# EAGLE library part NANONRES15 (library untitled)
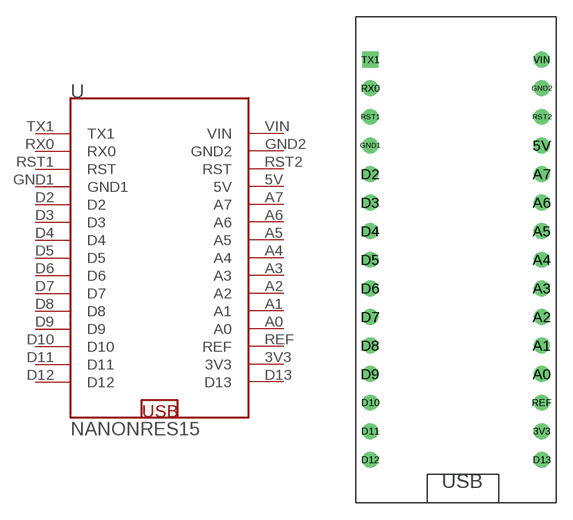
[diagram p0: symbol with the pads of NANOFOOT; footprint NANOFOOT]

Designator prefix U

## NANONRES15  [NANOFOOT]
3V3  3V3
5V  5V
A0  A0
A1  A1
A2  A2
A3  A3
A4  A4
A5  A5
A6  A6
A7  A7
D2  D2
D3  D3
D4  D4
D5  D5
D6  D6
D7  D7
D8  D8
D9  D9
D10  D10
D11  D11
D12  D12
D13  D13
GND1  GND1
GND2  GND2
REF  REF
RST1  RST
RST2  RST
RX0  RX0
TX1  TX1
VIN  VIN

## Footprint NANOFOOT (pad centres in mm)
drill 0.9: 3V3 6.35,-15.24; 5V 6.35,10.16; A0 6.35,-10.16; A1 6.35,-7.62; A2 6.35,-5.08; A3 6.35,-2.54; A4 6.35,0; A5 6.35,2.54; A6 6.35,5.08; A7 6.35,7.62; D2 -8.89,7.62; D3 -8.89,5.08; D4 -8.89,2.54; D5 -8.89,0; D6 -8.89,-2.54; D7 -8.89,-5.08; D8 -8.89,-7.62; D9 -8.89,-10.16; D10 -8.89,-12.7; D11 -8.89,-15.24; D12 -8.89,-17.78; D13 6.35,-17.78; GND1 -8.89,10.16; GND2 6.35,15.24; REF 6.35,-12.7; RST1 -8.89,12.7; RST2 6.35,12.7; RX0 -8.89,15.24; VIN 6.35,17.78
drill 0.9 square: TX1 -8.89,17.78